# EAGLE library part 62001021121 (library Board-to-Board (rev18a))
WR-PHD 2.00mm Dual Pin Header, 10 Pins=>Code : WR-PHD_Dual_Pin_Header_62001021121 <http://katalog.we-online.de/media/images/eican/WR-PHD_Dual_Pin_Header_6200xx21121.jpg> Details see: http://katalog.we-online.de/en/em/620_0xx_211_21 Created 2014-06-03, Karrer Zheng 2014 (C) Würth Elektronik
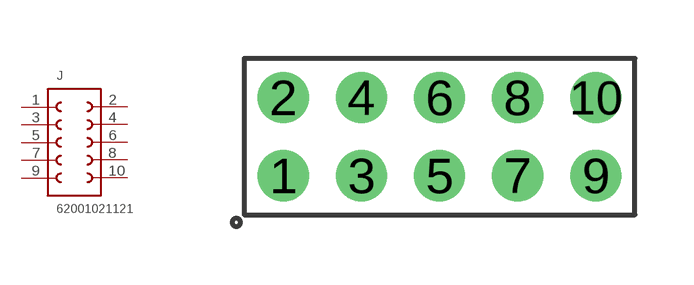
[diagram p224: symbol with the pads of 62001021121; footprint 62001021121]

Designator prefix J

## 62001021121  [62001021121]
1  1  pas
2  10  pas
3  2  pas
4  9  pas
5  3  pas
6  8  pas
7  4  pas
8  7  pas
9  5  pas
10  6  pas

## Footprint 62001021121 (pad centres in mm)
WR-PHD 2.00mm Dual Pin Header, 10 Pins
drill 0.8: 1 -4,-1; 2 -4,1; 3 -2,-1; 4 -2,1; 5 0,-1; 6 0,1; 7 2,-1; 8 2,1; 9 4,-1; 10 4,1